# Altium schematic symbol library Inductor_Ferrite Cored_1.Schlib: 1 symbol
Pins are listed as number, name and electrical type; pins without a type are passive.

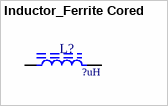
[diagram p0: symbol Inductor_Ferrite Cored]

## Inductor_Ferrite Cored
designator L?  Inductance: ?uH
footprint Inductor_Small
footprint Inductor_D860
footprint SMD_INDUCTOR_SLF6028 (Precision Wire Wound Inductor, 2-Leads, Body 6.00x6.00mm, IPC Medium Density)
pins: 1, 2